# Altium schematic symbol library LDO.SchLib: 9 symbols
Pins are listed as number, name and electrical type; pins without a type are passive.

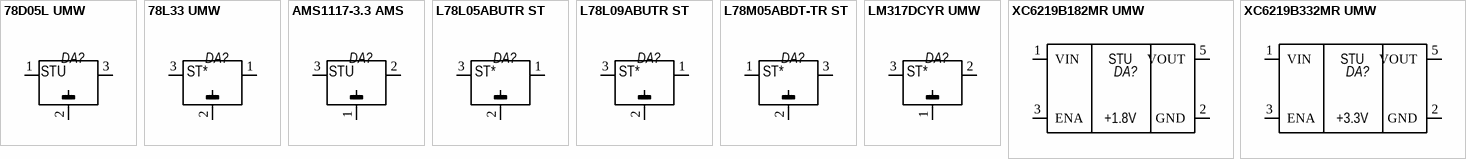
[diagram p0: symbols 78D05L UMW to XC6219B332MR UMW]

## 78D05L UMW
designator DA?  (value not drawn)
footprint TO-252 (DPAK)
pins: 1 VIN, 2 GND, 3 VOUT
text: STU

## 78L33 UMW
designator DA?  (value not drawn)
footprint SOT-89
pins: 1 VOUT, 2 GND, 3 VIN
text: ST*

## AMS1117-3.3 AMS
designator DA?  (value not drawn)
footprint SOT-223
pins: 1 GND, 2 VOUT, 3 VIN
text: STU

## L78L05ABUTR ST
designator DA?  (value not drawn)
Стабилизатор напряжения, линейный, +5В
footprint SOT-89
pins: 1 VOUT, 2 GND, 3 VIN
text: ST*

## L78L09ABUTR ST
designator DA?  (value not drawn)
Стабилизатор напряжения, линейный, +9В
footprint SOT-89
pins: 1 VOUT, 2 GND, 3 VIN
text: ST*

## L78M05ABDT-TR ST
designator DA?  (value not drawn)
Линейный стабилизатор с низким падением напряжения положительной полярности, 5 В, 0.5 А
footprint TO-252 (DPAK)
pins: 1 VIN, 2 GND, 3 VOUT
text: ST*

## LM317DCYR UMW
designator DA?  (value not drawn)
footprint TO-252 (DPAK)
pins: 1 ADJ, 2 VOUT, 3 VIN
text: ST*

## XC6219B182MR UMW
designator DA?  (value not drawn)
footprint SOT23-5
pins: 1 VIN, 2 GND, 3 ENA, 5 VOUT
text: STU; +1.8V

## XC6219B332MR UMW
designator DA?  (value not drawn)
footprint SOT23-5
pins: 1 VIN, 2 GND, 3 ENA, 5 VOUT
text: STU; +3.3V